# Altium integrated library Transistor.IntLib: 3457 symbols (part 55 of 78)
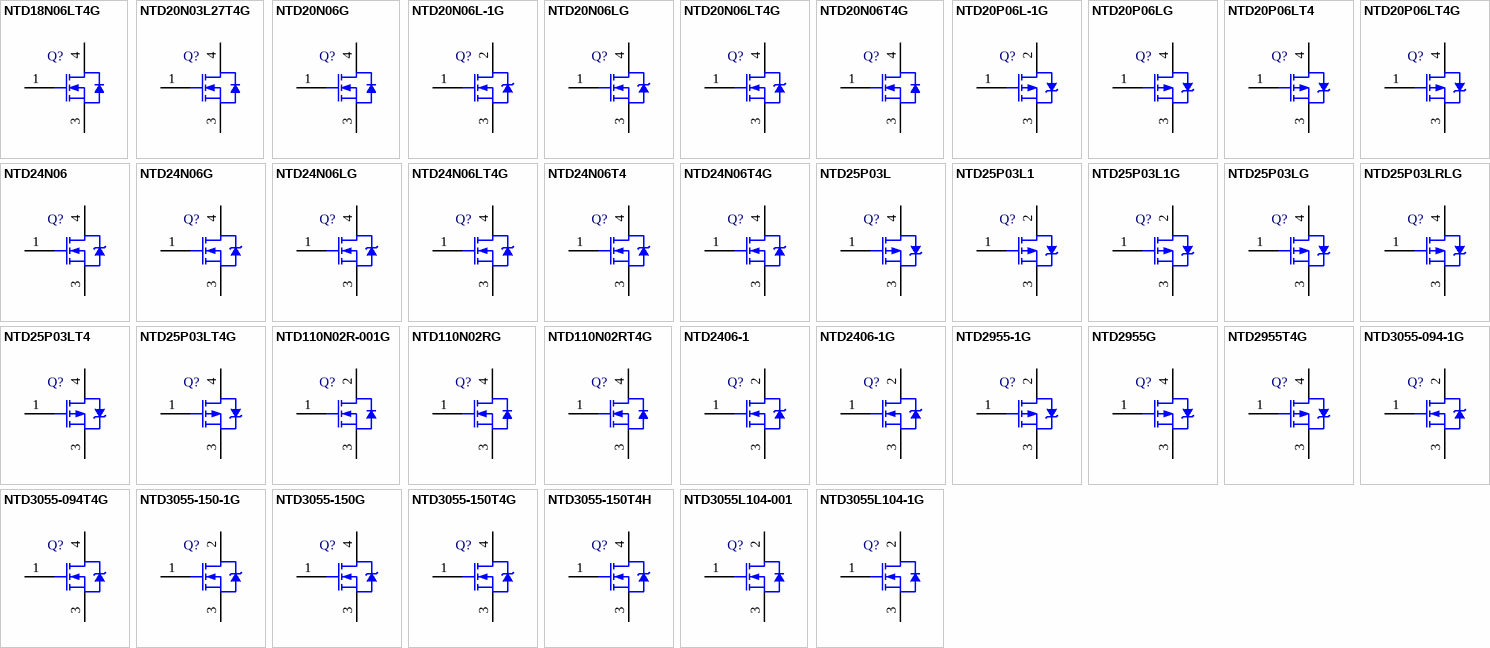
[diagram p148: symbols NTD18N06LT4G to NTD3055L104-1G]

## NTD20N06LT4G
designator Q?
Power MOSFET, 20 A, 60 V, Logic Level, N-Channel, 3-Pin DPAK, Pb-Free, Tape and Reel; Manufacturer: On Semiconductor; PartNumber: NTD20N06LT4G; Channel Polarity: N Channel; Ciss Typ (pF): 707; Configuration: Single; Coss Typ (pF): 224; Crss Typ (pF): 72; ID Max (A): 20; Qrr Typ (nC): 66; V(BR)DSS Min (V): 60; VGS(th) Max (V): 2; DatasheetVersion: Rev. 3; PackageVersion: Rev. E, 02/2014; PackageReference: DPAK-3-369C-01; PackageDescription: 3-Pin Flange Mount, Body 6.54 x 6.095 mm, Pitch 2.29 mm; Package Type: DPAK-3; Packing: Tape and Reel; RoHS: Pb-Free; Mounting Technology: Surface Mount; ComponentLink1Description: Manufacturer URL; ComponentLink1URL: http://www.onsemi.com/; ComponentLink2Description: Datasheet; ComponentLink2URL: http://www.onsemi.cn/pub_link/Collateral/NTD20N06L-D.PDF; ComponentLink3Description: Package Specification; ComponentLink3URL: http://www.onsemi.cn/pub_link/Collateral/369C.PDF
footprint ONSC-DPAK-3-369C-01_V (DPAK, 3-Leads, Body 6.54x6.095mm, Pitch 2.29mm)
pins: 1 G, 3 S, 4 D

## NTD20N06T4G
designator Q?
Power MOSFET, 20 A, 60 V, N-Channel, 3-Pin DPAK, Pb-Free, Tape and Reel; Manufacturer: On Semiconductor; PartNumber: NTD20N06T4G; Channel Polarity: N Channel; Ciss Typ (pF): 725; Configuration: Single; Coss Typ (pF): 213; Crss Typ (pF): 58; ID Max (A): 20; Qrr Typ (nC): 84; V(BR)DSS Min (V): 60; VGS(th) Max (V): 4; DatasheetVersion: Rev. 8; PackageVersion: Rev. E, 02/2014; PackageReference: DPAK-3-369C-01; PackageDescription: 3-Pin Flange Mount, Body 6.54 x 6.095 mm, Pitch 2.29 mm; Package Type: DPAK-3; Packing: Tape and Reel; RoHS: Pb-Free; Mounting Technology: Surface Mount; ComponentLink1Description: Manufacturer URL; ComponentLink1URL: http://www.onsemi.com/; ComponentLink2Description: Datasheet; ComponentLink2URL: http://www.onsemi.cn/pub_link/Collateral/NTD20N06-D.PDF; ComponentLink3Description: Package Specification; ComponentLink3URL: http://www.onsemi.cn/pub_link/Collateral/369C.PDF
footprint ONSC-DPAK-3-369C-01_V (DPAK, 3-Leads, Body 6.54x6.095mm, Pitch 2.29mm)
pins: 1 G, 3 S, 4 D

## NTD20P06L-1G
designator Q?
Power MOSFET -60 V, -15.5 A, Single P-Channel, 3-Pin IPAK, Pb-Free, Tube; Manufacturer: On Semiconductor; PartNumber: NTD20P06L-1G; Channel Polarity: P Channel; Ciss Typ (pF): 740; Coss Typ (pF): 207; Crss Typ (pF): 66; ID Max (A): 15.5; PD Max (W): 65; Qrr Typ (nC): 0.13; V(BR)DSS Min (V): 60; VGS Max (V): 20; VGS(th) Max (V): 2; DatasheetVersion: Rev. 6; PackageVersion: Rev. C, 12/2010; PackageReference: IPAK-3-369D-01; PackageDescription: 3-Pin Flange Mount, Vertical Straight Lead, Body 6.54 x 2.285 mm, Pitch 2.29 mm; Configuration: Single; Package Type: DPAK-3; Packing: Tube; RoHS: Pb-Free; Mounting Technology: Through Hole; Code_JEDEC: TO-251; ComponentLink1Description: Manufacturer URL; ComponentLink1URL: http://www.onsemi.com/; ComponentLink2Description: Datasheet; ComponentLink2URL: http://www.onsemi.cn/pub_link/Collateral/NTD20P06L-D.PDF; ComponentLink3Description: Package Specification; ComponentLink3URL: http://www.onsemi.cn/pub_link/Collateral/369D.PDF
footprint ONSC-IPAK-3-369D-01 (FM, 3-Leads, Body 6.75x2.4mm, Pitch 2.29mm)
pins: 1 G, 2 D, 3 S

## NTD20P06LG
designator Q?
Power MOSFET -60 V, -15.5 A, Single P-Channel, 3-Pin DPAK, Pb-Free, Tube; Manufacturer: On Semiconductor; PartNumber: NTD20P06LG; Channel Polarity: P Channel; Ciss Typ (pF): 740; Coss Typ (pF): 207; Crss Typ (pF): 66; ID Max (A): 15.5; PD Max (W): 65; Qrr Typ (nC): 0.13; V(BR)DSS Min (V): 60; VGS Max (V): 20; VGS(th) Max (V): 2; DatasheetVersion: Rev. 6; PackageVersion: Rev. E, 02/2014; PackageReference: DPAK-3-369C-01; PackageDescription: 3-Pin Flange Mount, Body 6.54 x 6.095 mm, Pitch 2.29 mm; Configuration: Single; Package Type: DPAK-3; Packing: Tube; RoHS: Pb-Free; Mounting Technology: Surface Mount; ComponentLink1Description: Manufacturer URL; ComponentLink1URL: http://www.onsemi.com/; ComponentLink2Description: Datasheet; ComponentLink2URL: http://www.onsemi.cn/pub_link/Collateral/NTD20P06L-D.PDF; ComponentLink3Description: Package Specification; ComponentLink3URL: http://www.onsemi.cn/pub_link/Collateral/369C.PDF
footprint ONSC-DPAK-3-369C-01_V (DPAK, 3-Leads, Body 6.54x6.095mm, Pitch 2.29mm)
pins: 1 G, 3 S, 4 D

## NTD20P06LT4
designator Q?
Power MOSFET -60 V, -15.5 A, Single P-Channel, 3-Pin DPAK, Tape and Reel; Manufacturer: On Semiconductor; PartNumber: NTD20P06LT4; Channel Polarity: P Channel; Ciss Typ (pF): 740; Coss Typ (pF): 207; Crss Typ (pF): 66; ID Max (A): 15.5; PD Max (W): 65; Qrr Typ (nC): 0.13; V(BR)DSS Min (V): 60; VGS Max (V): 20; VGS(th) Max (V): 2; DatasheetVersion: Rev. 6; PackageVersion: Rev. E, 02/2014; PackageReference: DPAK-3-369C-01; PackageDescription: 3-Pin Flange Mount, Body 6.54 x 6.095 mm, Pitch 2.29 mm; Configuration: Single; Package Type: DPAK-3; Packing: Tape and Reel; Mounting Technology: Surface Mount; ComponentLink1Description: Manufacturer URL; ComponentLink1URL: http://www.onsemi.com/; ComponentLink2Description: Datasheet; ComponentLink2URL: http://www.onsemi.cn/pub_link/Collateral/NTD20P06L-D.PDF; ComponentLink3Description: Package Specification; ComponentLink3URL: http://www.onsemi.cn/pub_link/Collateral/369C.PDF
footprint ONSC-DPAK-3-369C-01_V (DPAK, 3-Leads, Body 6.54x6.095mm, Pitch 2.29mm)
pins: 1 G, 3 S, 4 D

## NTD20P06LT4G
designator Q?
Power MOSFET -60 V, -15.5 A, Single P-Channel, 3-Pin DPAK, Pb-Free, Tape and Reel; Manufacturer: On Semiconductor; PartNumber: NTD20P06LT4G; Channel Polarity: P Channel; Ciss Typ (pF): 740; Coss Typ (pF): 207; Crss Typ (pF): 66; ID Max (A): 15.5; PD Max (W): 65; Qrr Typ (nC): 0.13; V(BR)DSS Min (V): 60; VGS Max (V): 20; VGS(th) Max (V): 2; DatasheetVersion: Rev. 6; PackageVersion: Rev. E, 02/2014; PackageReference: DPAK-3-369C-01; PackageDescription: 3-Pin Flange Mount, Body 6.54 x 6.095 mm, Pitch 2.29 mm; Configuration: Single; Package Type: DPAK-3; Packing: Tape and Reel; RoHS: Pb-Free; Mounting Technology: Surface Mount; ComponentLink1Description: Manufacturer URL; ComponentLink1URL: http://www.onsemi.com/; ComponentLink2Description: Datasheet; ComponentLink2URL: http://www.onsemi.cn/pub_link/Collateral/NTD20P06L-D.PDF; ComponentLink3Description: Package Specification; ComponentLink3URL: http://www.onsemi.cn/pub_link/Collateral/369C.PDF
footprint ONSC-DPAK-3-369C-01_V (DPAK, 3-Leads, Body 6.54x6.095mm, Pitch 2.29mm)
pins: 1 G, 3 S, 4 D

## NTD24N06
designator Q?
Power MOSFET, 60 V, 24 A, N-Channel, 3-Pin DPAK, Tube; Manufacturer: On Semiconductor; PartNumber: NTD24N06; Channel Polarity: N Channel; Ciss Typ (pF): 846; Configuration: Single; Coss Typ (pF): 252; Crss Typ (pF): 68; ID Max (A): 24; Qrr Typ (nC): 96; V(BR)DSS Min (V): 60; VGS(th) Max (V): 4; DatasheetVersion: Rev. 4; PackageVersion: Rev. E, 02/2014; PackageReference: DPAK-3-369C-01; PackageDescription: 3-Pin Flange Mount, Body 6.54 x 6.095 mm, Pitch 2.29 mm; Package Type: DPAK-3; Packing: Tube; Mounting Technology: Surface Mount; ComponentLink1Description: Manufacturer URL; ComponentLink1URL: http://www.onsemi.com/; ComponentLink2Description: Datasheet; ComponentLink2URL: http://www.onsemi.cn/pub_link/Collateral/NTD24N06-D.PDF; ComponentLink3Description: Package Specification; ComponentLink3URL: http://www.onsemi.cn/pub_link/Collateral/369C.PDF
footprint ONSC-DPAK-3-369C-01_V (DPAK, 3-Leads, Body 6.54x6.095mm, Pitch 2.29mm)
pins: 1 G, 3 S, 4 D

## NTD24N06G
designator Q?
Power MOSFET, 60 V, 24 A, N-Channel, 3-Pin DPAK, Pb-Free, Tube; Manufacturer: On Semiconductor; PartNumber: NTD24N06G; Channel Polarity: N Channel; Ciss Typ (pF): 846; Configuration: Single; Coss Typ (pF): 252; Crss Typ (pF): 68; ID Max (A): 24; Qrr Typ (nC): 96; V(BR)DSS Min (V): 60; VGS(th) Max (V): 4; DatasheetVersion: Rev. 4; PackageVersion: Rev. E, 02/2014; PackageReference: DPAK-3-369C-01; PackageDescription: 3-Pin Flange Mount, Body 6.54 x 6.095 mm, Pitch 2.29 mm; Package Type: DPAK-3; Packing: Tube; RoHS: Pb-Free; Mounting Technology: Surface Mount; ComponentLink1Description: Manufacturer URL; ComponentLink1URL: http://www.onsemi.com/; ComponentLink2Description: Datasheet; ComponentLink2URL: http://www.onsemi.cn/pub_link/Collateral/NTD24N06-D.PDF; ComponentLink3Description: Package Specification; ComponentLink3URL: http://www.onsemi.cn/pub_link/Collateral/369C.PDF
footprint ONSC-DPAK-3-369C-01_V (DPAK, 3-Leads, Body 6.54x6.095mm, Pitch 2.29mm)
pins: 1 G, 3 S, 4 D

## NTD24N06LG
designator Q?
Power MOSFET, 24 A, 60 V, Logic Level, N-Channel, 3-Pin DPAK, Pb-Free, Tube; Manufacturer: On Semiconductor; PartNumber: NTD24N06LG; Channel Polarity: N Channel; Ciss Typ (pF): 814; Configuration: Single; Coss Typ (pF): 258; Crss Typ (pF): 80; Qrr Typ (nC): 84; V(BR)DSS Min (V): 60; VGS(th) Max (V): 2; DatasheetVersion: Rev. 3; PackageVersion: Rev. E, 02/2014; PackageReference: DPAK-3-369C-01; PackageDescription: 3-Pin Flange Mount, Body 6.54 x 6.095 mm, Pitch 2.29 mm; Package Type: DPAK-3; Packing: Tube; RoHS: Pb-Free; Mounting Technology: Surface Mount; ComponentLink1Description: Manufacturer URL; ComponentLink1URL: http://www.onsemi.com/; ComponentLink2Description: Datasheet; ComponentLink2URL: http://www.onsemi.cn/pub_link/Collateral/NTD24N06L-D.PDF; ComponentLink3Description: Package Specification; ComponentLink3URL: http://www.onsemi.cn/pub_link/Collateral/369C.PDF
footprint ONSC-DPAK-3-369C-01_V (DPAK, 3-Leads, Body 6.54x6.095mm, Pitch 2.29mm)
pins: 1 G, 3 S, 4 D

## NTD24N06LT4G
designator Q?
Power MOSFET, 24 A, 60 V, Logic Level, N-Channel, 3-Pin DPAK, Pb-Free, Tape and Reel; Manufacturer: On Semiconductor; PartNumber: NTD24N06LT4G; Channel Polarity: N Channel; Ciss Typ (pF): 814; Configuration: Single; Coss Typ (pF): 258; Crss Typ (pF): 80; Qrr Typ (nC): 84; V(BR)DSS Min (V): 60; VGS(th) Max (V): 2; DatasheetVersion: Rev. 3; PackageVersion: Rev. E, 02/2014; PackageReference: DPAK-3-369C-01; PackageDescription: 3-Pin Flange Mount, Body 6.54 x 6.095 mm, Pitch 2.29 mm; Package Type: DPAK-3; Packing: Tape and Reel; RoHS: Pb-Free; Mounting Technology: Surface Mount; ComponentLink1Description: Manufacturer URL; ComponentLink1URL: http://www.onsemi.com/; ComponentLink2Description: Datasheet; ComponentLink2URL: http://www.onsemi.cn/pub_link/Collateral/NTD24N06L-D.PDF; ComponentLink3Description: Package Specification; ComponentLink3URL: http://www.onsemi.cn/pub_link/Collateral/369C.PDF
footprint ONSC-DPAK-3-369C-01_V (DPAK, 3-Leads, Body 6.54x6.095mm, Pitch 2.29mm)
pins: 1 G, 3 S, 4 D

## NTD24N06T4
designator Q?
Power MOSFET, 60 V, 24 A, N-Channel, 3-Pin DPAK, Tape and Reel; Manufacturer: On Semiconductor; PartNumber: NTD24N06T4; Channel Polarity: N Channel; Ciss Typ (pF): 846; Configuration: Single; Coss Typ (pF): 252; Crss Typ (pF): 68; ID Max (A): 24; Qrr Typ (nC): 96; V(BR)DSS Min (V): 60; VGS(th) Max (V): 4; DatasheetVersion: Rev. 4; PackageVersion: Rev. E, 02/2014; PackageReference: DPAK-3-369C-01; PackageDescription: 3-Pin Flange Mount, Body 6.54 x 6.095 mm, Pitch 2.29 mm; Package Type: DPAK-3; Packing: Tape and Reel; Mounting Technology: Surface Mount; ComponentLink1Description: Manufacturer URL; ComponentLink1URL: http://www.onsemi.com/; ComponentLink2Description: Datasheet; ComponentLink2URL: http://www.onsemi.cn/pub_link/Collateral/NTD24N06-D.PDF; ComponentLink3Description: Package Specification; ComponentLink3URL: http://www.onsemi.cn/pub_link/Collateral/369C.PDF
footprint ONSC-DPAK-3-369C-01_V (DPAK, 3-Leads, Body 6.54x6.095mm, Pitch 2.29mm)
pins: 1 G, 3 S, 4 D

## NTD24N06T4G
designator Q?
Power MOSFET, 60 V, 24 A, N-Channel, 3-Pin DPAK, Pb-Free, Tape and Reel; Manufacturer: On Semiconductor; PartNumber: NTD24N06T4G; Channel Polarity: N Channel; Ciss Typ (pF): 846; Configuration: Single; Coss Typ (pF): 252; Crss Typ (pF): 68; ID Max (A): 24; Qrr Typ (nC): 96; V(BR)DSS Min (V): 60; VGS(th) Max (V): 4; DatasheetVersion: Rev. 4; PackageVersion: Rev. E, 02/2014; PackageReference: DPAK-3-369C-01; PackageDescription: 3-Pin Flange Mount, Body 6.54 x 6.095 mm, Pitch 2.29 mm; Package Type: DPAK-3; Packing: Tape and Reel; RoHS: Pb-Free; Mounting Technology: Surface Mount; ComponentLink1Description: Manufacturer URL; ComponentLink1URL: http://www.onsemi.com/; ComponentLink2Description: Datasheet; ComponentLink2URL: http://www.onsemi.cn/pub_link/Collateral/NTD24N06-D.PDF; ComponentLink3Description: Package Specification; ComponentLink3URL: http://www.onsemi.cn/pub_link/Collateral/369C.PDF
footprint ONSC-DPAK-3-369C-01_V (DPAK, 3-Leads, Body 6.54x6.095mm, Pitch 2.29mm)
pins: 1 G, 3 S, 4 D

## NTD25P03L
designator Q?
Power MOSFET, -25 A, -30 V, Logic Level P-Channel, 3-Pin DPAK, Tube; Manufacturer: On Semiconductor; PartNumber: NTD25P03L; Channel Polarity: P Channel; Ciss Typ (pF): 900; Configuration: Single; Coss Typ (pF): 290; Crss Typ (pF): 105; ID Max (A): 25; PD Max (W): 75; Qrr Typ (nC): 35; V(BR)DSS Min (V): 30; VGS Max (V): 15; VGS(th) Max (V): 2; DatasheetVersion: Rev. 4; PackageVersion: Rev. E, 02/2014; PackageReference: DPAK-3-369C-01; PackageDescription: 3-Pin Flange Mount, Body 6.54 x 6.095 mm, Pitch 2.29 mm; Package Type: DPAK-3; Packing: Tube; Mounting Technology: Surface Mount; ComponentLink1Description: Manufacturer URL; ComponentLink1URL: http://www.onsemi.com/; ComponentLink2Description: Datasheet; ComponentLink2URL: http://www.onsemi.cn/pub_link/Collateral/NTD25P03L-D.PDF; ComponentLink3Description: Package Specification; ComponentLink3URL: http://www.onsemi.cn/pub_link/Collateral/369C.PDF
footprint ONSC-DPAK-3-369C-01_V (DPAK, 3-Leads, Body 6.54x6.095mm, Pitch 2.29mm)
pins: 1 G, 3 S, 4 D

## NTD25P03L1
designator Q?
Power MOSFET, -25 A, -30 V, Logic Level P-Channel, 3-Pin IPAK, Tube; Manufacturer: On Semiconductor; PartNumber: NTD25P03L1; Channel Polarity: P Channel; Ciss Typ (pF): 900; Configuration: Single; Coss Typ (pF): 290; Crss Typ (pF): 105; ID Max (A): 25; PD Max (W): 75; Qrr Typ (nC): 35; V(BR)DSS Min (V): 30; VGS Max (V): 15; VGS(th) Max (V): 2; DatasheetVersion: Rev. 4; PackageVersion: Rev. C, 12/2010; PackageReference: IPAK-3-369D-01; PackageDescription: 3-Pin Flange Mount, Vertical Straight Lead, Body 6.54 x 2.285 mm, Pitch 2.29 mm; Package Type: DPAK-3; Packing: Tube; Mounting Technology: Through Hole; Code_JEDEC: TO-251; ComponentLink1Description: Manufacturer URL; ComponentLink1URL: http://www.onsemi.com/; ComponentLink2Description: Datasheet; ComponentLink2URL: http://www.onsemi.cn/pub_link/Collateral/NTD25P03L-D.PDF; ComponentLink3Description: Package Specification; ComponentLink3URL: http://www.onsemi.cn/pub_link/Collateral/369D.PDF
footprint ONSC-IPAK-3-369D-01 (FM, 3-Leads, Body 6.75x2.4mm, Pitch 2.29mm)
pins: 1 G, 2 D, 3 S

## NTD25P03L1G
designator Q?
Power MOSFET, -25 A, -30 V, Logic Level P-Channel, 3-Pin IPAK, Pb-Free, Tube; Manufacturer: On Semiconductor; PartNumber: NTD25P03L1G; Channel Polarity: P Channel; Ciss Typ (pF): 900; Configuration: Single; Coss Typ (pF): 290; Crss Typ (pF): 105; ID Max (A): 25; PD Max (W): 75; Qrr Typ (nC): 35; V(BR)DSS Min (V): 30; VGS Max (V): 15; VGS(th) Max (V): 2; DatasheetVersion: Rev. 4; PackageVersion: Rev. C, 12/2010; PackageReference: IPAK-3-369D-01; PackageDescription: 3-Pin Flange Mount, Vertical Straight Lead, Body 6.54 x 2.285 mm, Pitch 2.29 mm; Package Type: DPAK-3; Packing: Tube; RoHS: Pb-Free; Mounting Technology: Through Hole; Code_JEDEC: TO-251; ComponentLink1Description: Manufacturer URL; ComponentLink1URL: http://www.onsemi.com/; ComponentLink2Description: Datasheet; ComponentLink2URL: http://www.onsemi.cn/pub_link/Collateral/NTD25P03L-D.PDF; ComponentLink3Description: Package Specification; ComponentLink3URL: http://www.onsemi.cn/pub_link/Collateral/369D.PDF
footprint ONSC-IPAK-3-369D-01 (FM, 3-Leads, Body 6.75x2.4mm, Pitch 2.29mm)
pins: 1 G, 2 D, 3 S

## NTD25P03LG
designator Q?
Power MOSFET, -25 A, -30 V, Logic Level P-Channel, 3-Pin DPAK, Pb-Free, Tube; Manufacturer: On Semiconductor; PartNumber: NTD25P03LG; Channel Polarity: P Channel; Ciss Typ (pF): 900; Configuration: Single; Coss Typ (pF): 290; Crss Typ (pF): 105; ID Max (A): 25; PD Max (W): 75; Qrr Typ (nC): 35; V(BR)DSS Min (V): 30; VGS Max (V): 15; VGS(th) Max (V): 2; DatasheetVersion: Rev. 4; PackageVersion: Rev. E, 02/2014; PackageReference: DPAK-3-369C-01; PackageDescription: 3-Pin Flange Mount, Body 6.54 x 6.095 mm, Pitch 2.29 mm; Package Type: DPAK-3; Packing: Tube; RoHS: Pb-Free; Mounting Technology: Surface Mount; ComponentLink1Description: Manufacturer URL; ComponentLink1URL: http://www.onsemi.com/; ComponentLink2Description: Datasheet; ComponentLink2URL: http://www.onsemi.cn/pub_link/Collateral/NTD25P03L-D.PDF; ComponentLink3Description: Package Specification; ComponentLink3URL: http://www.onsemi.cn/pub_link/Collateral/369C.PDF
footprint ONSC-DPAK-3-369C-01_V (DPAK, 3-Leads, Body 6.54x6.095mm, Pitch 2.29mm)
pins: 1 G, 3 S, 4 D

## NTD25P03LRLG
designator Q?
Power MOSFET, -25 A, -30 V, Logic Level P-Channel, 3-Pin DPAK, Pb-Free, Tape and Reel; Manufacturer: On Semiconductor; PartNumber: NTD25P03LRLG; Channel Polarity: P Channel; Ciss Typ (pF): 900; Configuration: Single; Coss Typ (pF): 290; Crss Typ (pF): 105; ID Max (A): 25; PD Max (W): 75; Qrr Typ (nC): 35; V(BR)DSS Min (V): 30; VGS Max (V): 15; VGS(th) Max (V): 2; DatasheetVersion: Rev. 4; PackageVersion: Rev. E, 02/2014; PackageReference: DPAK-3-369C-01; PackageDescription: 3-Pin Flange Mount, Body 6.54 x 6.095 mm, Pitch 2.29 mm; Package Type: DPAK-3; Packing: Tape and Reel; RoHS: Pb-Free; Mounting Technology: Surface Mount; ComponentLink1Description: Manufacturer URL; ComponentLink1URL: http://www.onsemi.com/; ComponentLink2Description: Datasheet; ComponentLink2URL: http://www.onsemi.cn/pub_link/Collateral/NTD25P03L-D.PDF; ComponentLink3Description: Package Specification; ComponentLink3URL: http://www.onsemi.cn/pub_link/Collateral/369C.PDF
footprint ONSC-DPAK-3-369C-01_V (DPAK, 3-Leads, Body 6.54x6.095mm, Pitch 2.29mm)
pins: 1 G, 3 S, 4 D

## NTD25P03LT4
designator Q?
Power MOSFET, -25 A, -30 V, Logic Level P-Channel, 3-Pin DPAK, Tape and Reel; Manufacturer: On Semiconductor; PartNumber: NTD25P03LT4; Channel Polarity: P Channel; Ciss Typ (pF): 900; Configuration: Single; Coss Typ (pF): 290; Crss Typ (pF): 105; ID Max (A): 25; PD Max (W): 75; Qrr Typ (nC): 35; V(BR)DSS Min (V): 30; VGS Max (V): 15; VGS(th) Max (V): 2; DatasheetVersion: Rev. 4; PackageVersion: Rev. E, 02/2014; PackageReference: DPAK-3-369C-01; PackageDescription: 3-Pin Flange Mount, Body 6.54 x 6.095 mm, Pitch 2.29 mm; Package Type: DPAK-3; Packing: Tape and Reel; Mounting Technology: Surface Mount; ComponentLink1Description: Manufacturer URL; ComponentLink1URL: http://www.onsemi.com/; ComponentLink2Description: Datasheet; ComponentLink2URL: http://www.onsemi.cn/pub_link/Collateral/NTD25P03L-D.PDF; ComponentLink3Description: Package Specification; ComponentLink3URL: http://www.onsemi.cn/pub_link/Collateral/369C.PDF
footprint ONSC-DPAK-3-369C-01_V (DPAK, 3-Leads, Body 6.54x6.095mm, Pitch 2.29mm)
pins: 1 G, 3 S, 4 D

## NTD25P03LT4G
designator Q?
Power MOSFET, -25 A, -30 V, Logic Level P-Channel, 3-Pin DPAK, Pb-Free, Tape and Reel; Manufacturer: On Semiconductor; PartNumber: NTD25P03LT4G; Channel Polarity: P Channel; Ciss Typ (pF): 900; Configuration: Single; Coss Typ (pF): 290; Crss Typ (pF): 105; ID Max (A): 25; PD Max (W): 75; Qrr Typ (nC): 35; V(BR)DSS Min (V): 30; VGS Max (V): 15; VGS(th) Max (V): 2; DatasheetVersion: Rev. 4; PackageVersion: Rev. E, 02/2014; PackageReference: DPAK-3-369C-01; PackageDescription: 3-Pin Flange Mount, Body 6.54 x 6.095 mm, Pitch 2.29 mm; Package Type: DPAK-3; Packing: Tape and Reel; RoHS: Pb-Free; Mounting Technology: Surface Mount; ComponentLink1Description: Manufacturer URL; ComponentLink1URL: http://www.onsemi.com/; ComponentLink2Description: Datasheet; ComponentLink2URL: http://www.onsemi.cn/pub_link/Collateral/NTD25P03L-D.PDF; ComponentLink3Description: Package Specification; ComponentLink3URL: http://www.onsemi.cn/pub_link/Collateral/369C.PDF
footprint ONSC-DPAK-3-369C-01_V (DPAK, 3-Leads, Body 6.54x6.095mm, Pitch 2.29mm)
pins: 1 G, 3 S, 4 D

## NTD110N02R-001G
designator Q?
Power MOSFET, 24 V, 110 A, N-Channel, 3-Pin IPAK, Pb-Free, Tube; Manufacturer: On Semiconductor; PartNumber: NTD110N02R-001G; Channel Polarity: N Channel; Ciss Typ (pF): 2710; Configuration: Single; Coss Typ (pF): 1105; Crss Typ (pF): 450; ID Max (A): 110; Qrr Typ (nC): 48; V(BR)DSS Min (V): 24; VGS Max (V): 20; VGS(th) Max (V): 2; DatasheetVersion: Rev. 10; PackageVersion: Rev. C, 12/2010; PackageReference: IPAK-3-369D-01; PackageDescription: 3-Pin Flange Mount, Vertical Straight Lead, Body 6.54 x 2.285 mm, Pitch 2.29 mm; Package Type: DPAK-3; Packing: Tube; RoHS: Pb-Free; Mounting Technology: Through Hole; Code_JEDEC: TO-251; ComponentLink1Description: Manufacturer URL; ComponentLink1URL: http://www.onsemi.com/; ComponentLink2Description: Datasheet; ComponentLink2URL: http://www.onsemi.cn/pub_link/Collateral/NTD110N02R-D.PDF; ComponentLink3Description: Package Specification; ComponentLink3URL: http://www.onsemi.cn/pub_link/Collateral/369D.PDF
footprint ONSC-IPAK-3-369D-01 (FM, 3-Leads, Body 6.75x2.4mm, Pitch 2.29mm)
pins: 1 G, 2 D, 3 S

## NTD110N02RG
designator Q?
Power MOSFET, 24 V, 110 A, N-Channel, 3-Pin DPAK, Pb-Free, Tube; Manufacturer: On Semiconductor; PartNumber: NTD110N02RG; Channel Polarity: N Channel; Ciss Typ (pF): 2710; Configuration: Single; Coss Typ (pF): 1105; Crss Typ (pF): 450; ID Max (A): 110; Qrr Typ (nC): 48; V(BR)DSS Min (V): 24; VGS Max (V): 20; VGS(th) Max (V): 2; DatasheetVersion: Rev. 10; PackageVersion: Rev. B, 06/2010; PackageReference: DPAK-3-369AA-01; PackageDescription: 3-Pin Flange Mount, Body 6.54 x 6.095 mm, Pitch 2.29 mm; Package Type: DPAK-3; Packing: Tube; RoHS: Pb-Free; Mounting Technology: Surface Mount; ComponentLink1Description: Manufacturer URL; ComponentLink1URL: http://www.onsemi.com/; ComponentLink2Description: Datasheet; ComponentLink2URL: http://www.onsemi.cn/pub_link/Collateral/NTD110N02R-D.PDF; ComponentLink3Description: Package Specification; ComponentLink3URL: http://www.onsemi.cn/pub_link/Collateral/369AA.PDF
footprint ONSC-DPAK-3-369AA-01_V (DPAK, 3-Leads, Body 6.54x6.095mm, Pitch 2.29mm)
pins: 1 G, 3 S, 4 D

## NTD110N02RT4G
designator Q?
Power MOSFET, 24 V, 110 A, N-Channel, 3-Pin DPAK, Pb-Free, Tape and Reel; Manufacturer: On Semiconductor; PartNumber: NTD110N02RT4G; Channel Polarity: N Channel; Ciss Typ (pF): 2710; Configuration: Single; Coss Typ (pF): 1105; Crss Typ (pF): 450; ID Max (A): 110; Qrr Typ (nC): 48; V(BR)DSS Min (V): 24; VGS Max (V): 20; VGS(th) Max (V): 2; DatasheetVersion: Rev. 10; PackageVersion: Rev. B, 06/2010; PackageReference: DPAK-3-369AA-01; PackageDescription: 3-Pin Flange Mount, Body 6.54 x 6.095 mm, Pitch 2.29 mm; Package Type: DPAK-3; Packing: Tape and Reel; RoHS: Pb-Free; Mounting Technology: Surface Mount; ComponentLink1Description: Manufacturer URL; ComponentLink1URL: http://www.onsemi.com/; ComponentLink2Description: Datasheet; ComponentLink2URL: http://www.onsemi.cn/pub_link/Collateral/NTD110N02R-D.PDF; ComponentLink3Description: Package Specification; ComponentLink3URL: http://www.onsemi.cn/pub_link/Collateral/369AA.PDF
footprint ONSC-DPAK-3-369AA-01_V (DPAK, 3-Leads, Body 6.54x6.095mm, Pitch 2.29mm)
pins: 1 G, 3 S, 4 D

## NTD2406-1
designator Q?
Power MOSFET, 60 V, 24 A, N-Channel, 3-Pin IPAK, Tube; Manufacturer: On Semiconductor; PartNumber: NTD2406-1; Channel Polarity: N Channel; Ciss Typ (pF): 846; Configuration: Single; Coss Typ (pF): 252; Crss Typ (pF): 68; ID Max (A): 24; Qrr Typ (nC): 96; V(BR)DSS Min (V): 60; VGS(th) Max (V): 4; DatasheetVersion: Rev. 4; PackageVersion: Rev. C, 12/2010; PackageReference: IPAK-3-369D-01; PackageDescription: 3-Pin Flange Mount, Vertical Straight Lead, Body 6.54 x 2.285 mm, Pitch 2.29 mm; Package Type: DPAK-3; Packing: Tube; Mounting Technology: Through Hole; Code_JEDEC: TO-251; ComponentLink1Description: Manufacturer URL; ComponentLink1URL: http://www.onsemi.com/; ComponentLink2Description: Datasheet; ComponentLink2URL: http://www.onsemi.cn/pub_link/Collateral/NTD24N06-D.PDF; ComponentLink3Description: Package Specification; ComponentLink3URL: http://www.onsemi.cn/pub_link/Collateral/369D.PDF
footprint ONSC-IPAK-3-369D-01 (FM, 3-Leads, Body 6.75x2.4mm, Pitch 2.29mm)
pins: 1 G, 2 D, 3 S

## NTD2406-1G
designator Q?
Power MOSFET, 60 V, 24 A, N-Channel, 3-Pin IPAK, Pb-Free, Tube; Manufacturer: On Semiconductor; PartNumber: NTD2406-1G; Channel Polarity: N Channel; Ciss Typ (pF): 846; Configuration: Single; Coss Typ (pF): 252; Crss Typ (pF): 68; ID Max (A): 24; Qrr Typ (nC): 96; V(BR)DSS Min (V): 60; VGS(th) Max (V): 4; DatasheetVersion: Rev. 4; PackageVersion: Rev. C, 12/2010; PackageReference: IPAK-3-369D-01; PackageDescription: 3-Pin Flange Mount, Vertical Straight Lead, Body 6.54 x 2.285 mm, Pitch 2.29 mm; Package Type: DPAK-3; Packing: Tube; RoHS: Pb-Free; Mounting Technology: Through Hole; Code_JEDEC: TO-251; ComponentLink1Description: Manufacturer URL; ComponentLink1URL: http://www.onsemi.com/; ComponentLink2Description: Datasheet; ComponentLink2URL: http://www.onsemi.cn/pub_link/Collateral/NTD24N06-D.PDF; ComponentLink3Description: Package Specification; ComponentLink3URL: http://www.onsemi.cn/pub_link/Collateral/369D.PDF
footprint ONSC-IPAK-3-369D-01 (FM, 3-Leads, Body 6.75x2.4mm, Pitch 2.29mm)
pins: 1 G, 2 D, 3 S

## NTD2955-1G
designator Q?
Power MOSFET, -60 V, -12 A, P-Channel, 3-Pin IPAK, Pb-Free, Tube; Manufacturer: On Semiconductor; PartNumber: NTD2955-1G; Channel Polarity: P Channel; Ciss Typ (pF): 500; Configuration: Single; Coss Typ (pF): 150; Crss Typ (pF): 50; ID Max (A): 12; PD Max (W): 55; Qrr Typ (nC): 100; V(BR)DSS Min (V): 60; VGS Max (V): 20; VGS(th) Max (V): 4; DatasheetVersion: Rev. 13; PackageVersion: Rev. C, 12/2010; PackageReference: IPAK-3-369D-01; PackageDescription: 3-Pin Flange Mount, Vertical Straight Lead, Body 6.54 x 2.285 mm, Pitch 2.29 mm; Package Type: DPAK-3, IPAK-4; Packing: Tube; RoHS: Pb-Free; Mounting Technology: Through Hole; Code_JEDEC: TO-251; ComponentLink1Description: Manufacturer URL; ComponentLink1URL: http://www.onsemi.com/; ComponentLink2Description: Datasheet; ComponentLink2URL: http://www.onsemi.cn/pub_link/Collateral/NTD2955-D.PDF; ComponentLink3Description: Package Specification; ComponentLink3URL: http://www.onsemi.cn/pub_link/Collateral/369D.PDF
footprint ONSC-IPAK-3-369D-01 (FM, 3-Leads, Body 6.75x2.4mm, Pitch 2.29mm)
pins: 1 G, 2 D, 3 S

## NTD2955G
designator Q?
Power MOSFET, -60 V, -12 A, P-Channel, 3-Pin DPAK, Pb-Free, Tape and Reel; Manufacturer: On Semiconductor; PartNumber: NTD2955G; Channel Polarity: P Channel; Ciss Typ (pF): 500; Configuration: Single; Coss Typ (pF): 150; Crss Typ (pF): 50; ID Max (A): 12; PD Max (W): 55; Qrr Typ (nC): 100; V(BR)DSS Min (V): 60; VGS Max (V): 20; VGS(th) Max (V): 4; DatasheetVersion: Rev. 13; PackageVersion: Rev. E, 02/2014; PackageReference: DPAK-3-369C-01; PackageDescription: 3-Pin Flange Mount, Body 6.54 x 6.095 mm, Pitch 2.29 mm; Package Type: DPAK-3, IPAK-4; Packing: Tape and Reel; RoHS: Pb-Free; Mounting Technology: Surface Mount; ComponentLink1Description: Manufacturer URL; ComponentLink1URL: http://www.onsemi.com/; ComponentLink2Description: Datasheet; ComponentLink2URL: http://www.onsemi.cn/pub_link/Collateral/NTD2955-D.PDF; ComponentLink3Description: Package Specification; ComponentLink3URL: http://www.onsemi.cn/pub_link/Collateral/369C.PDF
footprint ONSC-DPAK-3-369C-01_V (DPAK, 3-Leads, Body 6.54x6.095mm, Pitch 2.29mm)
pins: 1 G, 3 S, 4 D

## NTD2955T4G
designator Q?
Power MOSFET, -60 V, -12 A, P-Channel, 3-Pin DPAK, Pb-Free, Tape and Reel; Manufacturer: On Semiconductor; PartNumber: NTD2955T4G; Channel Polarity: P Channel; Ciss Typ (pF): 500; Configuration: Single; Coss Typ (pF): 150; Crss Typ (pF): 50; ID Max (A): 12; PD Max (W): 55; Qrr Typ (nC): 100; V(BR)DSS Min (V): 60; VGS Max (V): 20; VGS(th) Max (V): 4; DatasheetVersion: Rev. 13; PackageVersion: Rev. E, 02/2014; PackageReference: DPAK-3-369C-01; PackageDescription: 3-Pin Flange Mount, Body 6.54 x 6.095 mm, Pitch 2.29 mm; Package Type: DPAK-3, IPAK-4; Packing: Tape and Reel; RoHS: Pb-Free; Mounting Technology: Surface Mount; ComponentLink1Description: Manufacturer URL; ComponentLink1URL: http://www.onsemi.com/; ComponentLink2Description: Datasheet; ComponentLink2URL: http://www.onsemi.cn/pub_link/Collateral/NTD2955-D.PDF; ComponentLink3Description: Package Specification; ComponentLink3URL: http://www.onsemi.cn/pub_link/Collateral/369C.PDF
footprint ONSC-DPAK-3-369C-01_V (DPAK, 3-Leads, Body 6.54x6.095mm, Pitch 2.29mm)
pins: 1 G, 3 S, 4 D

## NTD3055-094-1G
designator Q?
Power MOSFET, 12 A, 60 V, N-Channel, 3-Pin IPAK, Pb-Free, Tube; Manufacturer: On Semiconductor; PartNumber: NTD3055-094-1G; Channel Polarity: N Channel; Ciss Typ (pF): 323; Configuration: Single; Coss Typ (pF): 107; Crss Typ (pF): 34; ID Max (A): 12; Qrr Typ (nC): 47; V(BR)DSS Min (V): 60; VGS(th) Max (V): 4; DatasheetVersion: Rev. 8; PackageVersion: Rev. C, 12/2010; PackageReference: IPAK-3-369D-01; PackageDescription: 3-Pin Flange Mount, Vertical Straight Lead, Body 6.54 x 2.285 mm, Pitch 2.29 mm; Supplier 1: Digi-Key; Supplier Part Number 1: NTD3055-094-1GOS-ND; Supplier 2: Farnell; Supplier Part Number 2: 1706018; Supplier 3: Newark; Supplier Part Number 3: 71J7041; Supplier 4: Mouser; Supplier Part Number 4: 863-NTD3055-094-1G; Package Type: DPAK-3, IPAK-4; Packing: Tube; RoHS: Pb-Free; Mounting Technology: Through Hole; Code_JEDEC: TO-251; ComponentLink1Description: Manufacturer URL; ComponentLink1URL: http://www.onsemi.com/; ComponentLink2Description: Datasheet; ComponentLink2URL: http://www.onsemi.com/pub_link/Collateral/NTD3055-094-D.PDF; ComponentLink3Description: Package Specification; ComponentLink3URL: http://www.onsemi.cn/pub_link/Collateral/369D.PDF
footprint ONSC-IPAK-3-369D-01 (FM, 3-Leads, Body 6.75x2.4mm, Pitch 2.29mm)
pins: 1 G, 2 D, 3 S

## NTD3055-094T4G
designator Q?
Power MOSFET, 12 A, 60 V, N-Channel, 3-Pin DPAK, Pb-Free, Tape and Reel; Manufacturer: On Semiconductor; PartNumber: NTD3055-094T4G; Channel Polarity: N Channel; Ciss Typ (pF): 323; Configuration: Single; Coss Typ (pF): 107; Crss Typ (pF): 34; ID Max (A): 12; Qrr Typ (nC): 47; V(BR)DSS Min (V): 60; VGS(th) Max (V): 4; DatasheetVersion: Rev. 8; PackageVersion: Rev. E, 02/2014; PackageReference: DPAK-3-369C-01; PackageDescription: 3-Pin Flange Mount, Body 6.54 x 6.095 mm, Pitch 2.29 mm; Supplier 1: Digi-Key; Supplier Part Number 1: NTD3055-094T4GOSTR-ND; Supplier 2: Digi-Key; Supplier Part Number 2: NTD3055-094T4GOSCT-ND; Supplier 3: Digi-Key; Supplier Part Number 3: NTD3055-094T4GOSDKR-ND; Supplier 4: Farnell; Supplier Part Number 4: 1653676RL; Supplier 5: Farnell; Supplier Part Number 5: 1653676; Supplier 6: Newark; Supplier Part Number 6: 71J7043; Supplier 7: Mouser; Supplier Part Number 7: 863-NTD3055-094T4G; Package Type: DPAK-3, IPAK-4; Packing: Tape and Reel; RoHS: Pb-Free; Mounting Technology: Surface Mount; ComponentLink1Description: Manufacturer URL; ComponentLink1URL: http://www.onsemi.com/; ComponentLink2Description: Datasheet; ComponentLink2URL: http://www.onsemi.com/pub_link/Collateral/NTD3055-094-D.PDF; ComponentLink3Description: Package Specification; ComponentLink3URL: http://www.onsemi.cn/pub_link/Collateral/369C.PDF
footprint ONSC-DPAK-3-369C-01_V (DPAK, 3-Leads, Body 6.54x6.095mm, Pitch 2.29mm)
pins: 1 G, 3 S, 4 D

## NTD3055-150-1G
designator Q?
Power MOSFET, 9 A, 60 V, N-Channel, 3-Pin IPAK, Pb-Free, Tube; Manufacturer: On Semiconductor; PartNumber: NTD3055-150-1G; Channel Polarity: N Channel; Ciss Typ (pF): 200; Configuration: Single; Coss Typ (pF): 70; Crss Typ (pF): 26; Qrr Typ (nC): 36; V(BR)DSS Min (V): 60; VGS(th) Max (V): 4; DatasheetVersion: Rev. 5; PackageVersion: Rev. C, 12/2010; PackageReference: IPAK-3-369D-01; PackageDescription: 3-Pin Flange Mount, Vertical Straight Lead, Body 6.54 x 2.285 mm, Pitch 2.29 mm; Package Type: DPAK-3; Packing: Tube; RoHS: Pb-Free; Mounting Technology: Through Hole; Code_JEDEC: TO-251; ComponentLink1Description: Manufacturer URL; ComponentLink1URL: http://www.onsemi.com/; ComponentLink2Description: Datasheet; ComponentLink2URL: http://www.onsemi.cn/pub_link/Collateral/NTD3055-150-D.PDF; ComponentLink3Description: Package Specification; ComponentLink3URL: http://www.onsemi.cn/pub_link/Collateral/369D.PDF
footprint ONSC-IPAK-3-369D-01 (FM, 3-Leads, Body 6.75x2.4mm, Pitch 2.29mm)
pins: 1 G, 2 D, 3 S

## NTD3055-150G
designator Q?
Power MOSFET, 9 A, 60 V, N-Channel, 3-Pin DPAK, Pb-Free, Tube; Manufacturer: On Semiconductor; PartNumber: NTD3055-150G; Channel Polarity: N Channel; Ciss Typ (pF): 200; Configuration: Single; Coss Typ (pF): 70; Crss Typ (pF): 26; Qrr Typ (nC): 36; V(BR)DSS Min (V): 60; VGS(th) Max (V): 4; DatasheetVersion: Rev. 5; PackageVersion: Rev. E, 02/2014; PackageReference: DPAK-3-369C-01; PackageDescription: 3-Pin Flange Mount, Body 6.54 x 6.095 mm, Pitch 2.29 mm; Package Type: DPAK-3; Packing: Tube; RoHS: Pb-Free; Mounting Technology: Surface Mount; ComponentLink1Description: Manufacturer URL; ComponentLink1URL: http://www.onsemi.com/; ComponentLink2Description: Datasheet; ComponentLink2URL: http://www.onsemi.cn/pub_link/Collateral/NTD3055-150-D.PDF; ComponentLink3Description: Package Specification; ComponentLink3URL: http://www.onsemi.cn/pub_link/Collateral/369C.PDF
footprint ONSC-DPAK-3-369C-01_V (DPAK, 3-Leads, Body 6.54x6.095mm, Pitch 2.29mm)
pins: 1 G, 3 S, 4 D

## NTD3055-150T4G
designator Q?
Power MOSFET, 9 A, 60 V, N-Channel, 3-Pin DPAK, Pb-Free, Tape and Reel; Manufacturer: On Semiconductor; PartNumber: NTD3055-150T4G; Channel Polarity: N Channel; Ciss Typ (pF): 200; Configuration: Single; Coss Typ (pF): 70; Crss Typ (pF): 26; Qrr Typ (nC): 36; V(BR)DSS Min (V): 60; VGS(th) Max (V): 4; DatasheetVersion: Rev. 5; PackageVersion: Rev. E, 02/2014; PackageReference: DPAK-3-369C-01; PackageDescription: 3-Pin Flange Mount, Body 6.54 x 6.095 mm, Pitch 2.29 mm; Package Type: DPAK-3; Packing: Tape and Reel; RoHS: Pb-Free; Mounting Technology: Surface Mount; ComponentLink1Description: Manufacturer URL; ComponentLink1URL: http://www.onsemi.com/; ComponentLink2Description: Datasheet; ComponentLink2URL: http://www.onsemi.cn/pub_link/Collateral/NTD3055-150-D.PDF; ComponentLink3Description: Package Specification; ComponentLink3URL: http://www.onsemi.cn/pub_link/Collateral/369C.PDF
footprint ONSC-DPAK-3-369C-01_V (DPAK, 3-Leads, Body 6.54x6.095mm, Pitch 2.29mm)
pins: 1 G, 3 S, 4 D

## NTD3055-150T4H
designator Q?
Power MOSFET, 9 A, 60 V, N-Channel, 3-Pin DPAK, Tape and Reel; Manufacturer: On Semiconductor; PartNumber: NTD3055-150T4H; Channel Polarity: N Channel; Ciss Typ (pF): 200; Configuration: Single; Coss Typ (pF): 70; Crss Typ (pF): 26; Qrr Typ (nC): 36; V(BR)DSS Min (V): 60; VGS(th) Max (V): 4; DatasheetVersion: Rev. 5; PackageVersion: Rev. E, 02/2014; PackageReference: DPAK-3-369C-01; PackageDescription: 3-Pin Flange Mount, Body 6.54 x 6.095 mm, Pitch 2.29 mm; Package Type: DPAK-3; Packing: Tape and Reel; Mounting Technology: Surface Mount; ComponentLink1Description: Manufacturer URL; ComponentLink1URL: http://www.onsemi.com/; ComponentLink2Description: Datasheet; ComponentLink2URL: http://www.onsemi.cn/pub_link/Collateral/NTD3055-150-D.PDF; ComponentLink3Description: Package Specification; ComponentLink3URL: http://www.onsemi.cn/pub_link/Collateral/369C.PDF
footprint ONSC-DPAK-3-369C-01_V (DPAK, 3-Leads, Body 6.54x6.095mm, Pitch 2.29mm)
pins: 1 G, 3 S, 4 D

## NTD3055L104-001
designator Q?
Power MOSFET, 12 A, 60 V, Logic Level, N-Channel, 3-Pin IPAK, Pb-Free, Tube; Manufacturer: On Semiconductor; PartNumber: NTD3055L104-001; Channel Polarity: N Channel; Ciss Typ (pF): 316; Configuration: Single; Coss Typ (pF): 105; Crss Typ (pF): 35; ID Max (A): 12; Qrr Typ (nC): 40; V(BR)DSS Min (V): 60; VGS(th) Max (V): 2; DatasheetVersion: Rev. 8; PackageVersion: Rev. C, 12/2010; PackageReference: IPAK-3-369D-01; PackageDescription: 3-Pin Flange Mount, Vertical Straight Lead, Body 6.54 x 2.285 mm, Pitch 2.29 mm; Package Type: DPAK-3, IPAK-4; Packing: Tube; RoHS: Pb-Free; Mounting Technology: Through Hole; Code_JEDEC: TO-251; ComponentLink1Description: Manufacturer URL; ComponentLink1URL: http://www.onsemi.com/; ComponentLink2Description: Datasheet; ComponentLink2URL: http://www.onsemi.cn/pub_link/Collateral/NTD3055L104-D.PDF; ComponentLink3Description: Package Specification; ComponentLink3URL: http://www.onsemi.cn/pub_link/Collateral/369D.PDF
footprint ONSC-IPAK-3-369D-01 (FM, 3-Leads, Body 6.75x2.4mm, Pitch 2.29mm)
pins: 1 G, 2 D, 3 S

## NTD3055L104-1G
designator Q?
Power MOSFET, 12 A, 60 V, Logic Level, N-Channel, 3-Pin IPAK, Pb-Free, Tube; Manufacturer: On Semiconductor; PartNumber: NTD3055L104-1G; Channel Polarity: N Channel; Ciss Typ (pF): 316; Configuration: Single; Coss Typ (pF): 105; Crss Typ (pF): 35; ID Max (A): 12; Qrr Typ (nC): 40; V(BR)DSS Min (V): 60; VGS(th) Max (V): 2; DatasheetVersion: Rev. 8; PackageVersion: Rev. C, 12/2010; PackageReference: IPAK-3-369D-01; PackageDescription: 3-Pin Flange Mount, Vertical Straight Lead, Body 6.54 x 2.285 mm, Pitch 2.29 mm; Package Type: DPAK-3, IPAK-4; Packing: Tube; RoHS: Pb-Free; Mounting Technology: Through Hole; Code_JEDEC: TO-251; ComponentLink1Description: Manufacturer URL; ComponentLink1URL: http://www.onsemi.com/; ComponentLink2Description: Datasheet; ComponentLink2URL: http://www.onsemi.cn/pub_link/Collateral/NTD3055L104-D.PDF; ComponentLink3Description: Package Specification; ComponentLink3URL: http://www.onsemi.cn/pub_link/Collateral/369D.PDF
footprint ONSC-IPAK-3-369D-01 (FM, 3-Leads, Body 6.75x2.4mm, Pitch 2.29mm)
pins: 1 G, 2 D, 3 S

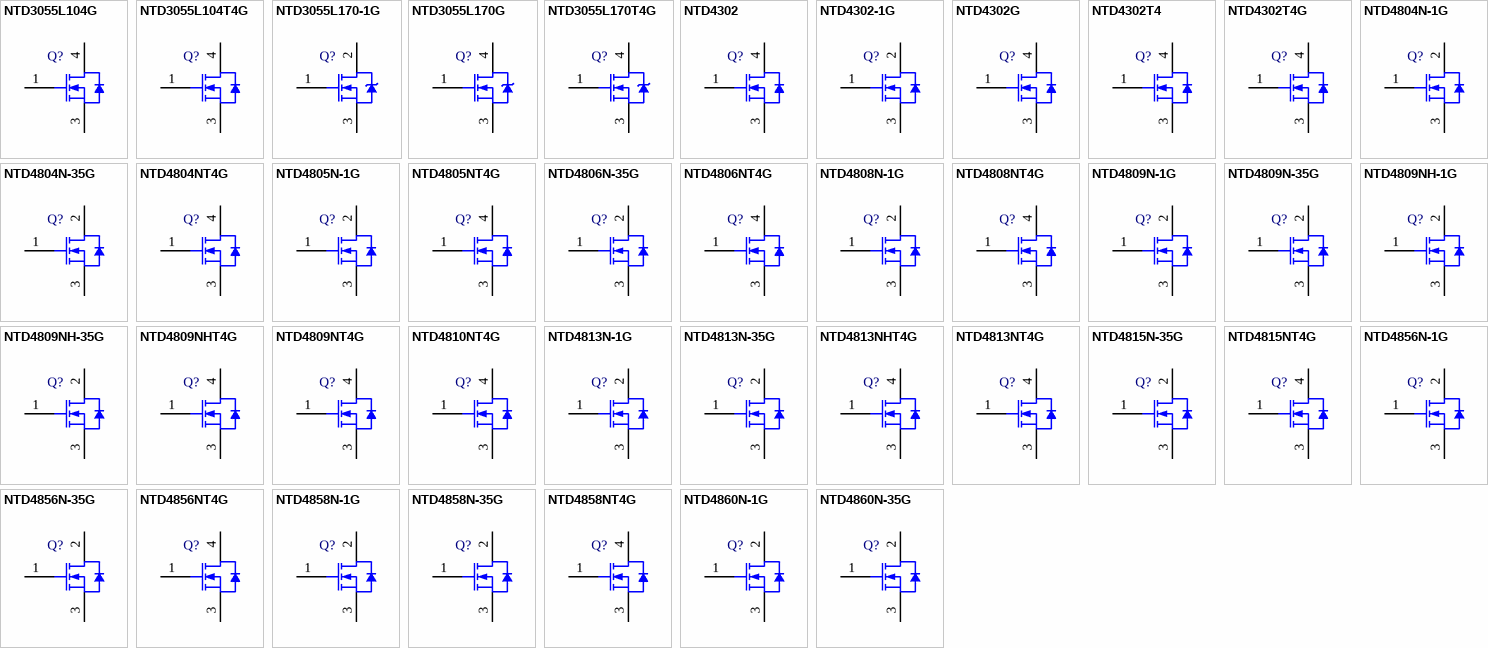
[diagram p66: symbols NTD3055L104G to NTD4860N-35G]

## NTD3055L104G
designator Q?
Power MOSFET, 12 A, 60 V, Logic Level, N-Channel, 3-Pin DPAK, Pb-Free, Tube; Manufacturer: On Semiconductor; PartNumber: NTD3055L104G; Channel Polarity: N Channel; Ciss Typ (pF): 316; Configuration: Single; Coss Typ (pF): 105; Crss Typ (pF): 35; ID Max (A): 12; Qrr Typ (nC): 40; V(BR)DSS Min (V): 60; VGS(th) Max (V): 2; DatasheetVersion: Rev. 8; PackageVersion: Rev. E, 02/2014; PackageReference: DPAK-3-369C-01; PackageDescription: 3-Pin Flange Mount, Body 6.54 x 6.095 mm, Pitch 2.29 mm; Package Type: DPAK-3, IPAK-4; Packing: Tube; RoHS: Pb-Free; Mounting Technology: Surface Mount; ComponentLink1Description: Manufacturer URL; ComponentLink1URL: http://www.onsemi.com/; ComponentLink2Description: Datasheet; ComponentLink2URL: http://www.onsemi.cn/pub_link/Collateral/NTD3055L104-D.PDF; ComponentLink3Description: Package Specification; ComponentLink3URL: http://www.onsemi.cn/pub_link/Collateral/369C.PDF
footprint ONSC-DPAK-3-369C-01_V (DPAK, 3-Leads, Body 6.54x6.095mm, Pitch 2.29mm)
pins: 1 G, 3 S, 4 D

## NTD3055L104T4G
designator Q?
Power MOSFET, 12 A, 60 V, Logic Level, N-Channel, 3-Pin DPAK, Pb-Free, Tape and Reel; Manufacturer: On Semiconductor; PartNumber: NTD3055L104T4G; Channel Polarity: N Channel; Ciss Typ (pF): 316; Configuration: Single; Coss Typ (pF): 105; Crss Typ (pF): 35; ID Max (A): 12; Qrr Typ (nC): 40; V(BR)DSS Min (V): 60; VGS(th) Max (V): 2; DatasheetVersion: Rev. 8; PackageVersion: Rev. E, 02/2014; PackageReference: DPAK-3-369C-01; PackageDescription: 3-Pin Flange Mount, Body 6.54 x 6.095 mm, Pitch 2.29 mm; Package Type: DPAK-3, IPAK-4; Packing: Tape and Reel; RoHS: Pb-Free; Mounting Technology: Surface Mount; ComponentLink1Description: Manufacturer URL; ComponentLink1URL: http://www.onsemi.com/; ComponentLink2Description: Datasheet; ComponentLink2URL: http://www.onsemi.cn/pub_link/Collateral/NTD3055L104-D.PDF; ComponentLink3Description: Package Specification; ComponentLink3URL: http://www.onsemi.cn/pub_link/Collateral/369C.PDF
footprint ONSC-DPAK-3-369C-01_V (DPAK, 3-Leads, Body 6.54x6.095mm, Pitch 2.29mm)
pins: 1 G, 3 S, 4 D

## NTD3055L170-1G
designator Q?
Power MOSFET, 9 A, 60 V, Logic Level, N-Channel, 3-Pin IPAK, Pb-Free, Tube; Manufacturer: On Semiconductor; PartNumber: NTD3055L170-1G; Channel Polarity: N Channel; Ciss Typ (pF): 195; Configuration: Single; Coss Typ (pF): 70; Crss Typ (pF): 29; Qrr Typ (nC): 31; V(BR)DSS Min (V): 60; VGS(th) Max (V): 2; DatasheetVersion: Rev. 5; PackageVersion: Rev. C, 12/2010; PackageReference: IPAK-3-369D-01; PackageDescription: 3-Pin Flange Mount, Vertical Straight Lead, Body 6.54 x 2.285 mm, Pitch 2.29 mm; Package Type: DPAK-3; Packing: Tube; RoHS: Pb-Free; Mounting Technology: Through Hole; Code_JEDEC: TO-251; ComponentLink1Description: Manufacturer URL; ComponentLink1URL: http://www.onsemi.com/; ComponentLink2Description: Datasheet; ComponentLink2URL: http://www.onsemi.cn/pub_link/Collateral/NTD3055L170-D.PDF; ComponentLink3Description: Package Specification; ComponentLink3URL: http://www.onsemi.cn/pub_link/Collateral/369D.PDF
footprint ONSC-IPAK-3-369D-01 (FM, 3-Leads, Body 6.75x2.4mm, Pitch 2.29mm)
pins: 1 G, 2 D, 3 S

## NTD3055L170G
designator Q?
Power MOSFET, 9 A, 60 V, Logic Level, N-Channel, 3-Pin DPAK, Pb-Free, Tube; Manufacturer: On Semiconductor; PartNumber: NTD3055L170G; Channel Polarity: N Channel; Ciss Typ (pF): 195; Configuration: Single; Coss Typ (pF): 70; Crss Typ (pF): 29; Qrr Typ (nC): 31; V(BR)DSS Min (V): 60; VGS(th) Max (V): 2; DatasheetVersion: Rev. 5; PackageVersion: Rev. E, 02/2014; PackageReference: DPAK-3-369C-01; PackageDescription: 3-Pin Flange Mount, Body 6.54 x 6.095 mm, Pitch 2.29 mm; Package Type: DPAK-3; Packing: Tube; RoHS: Pb-Free; Mounting Technology: Surface Mount; ComponentLink1Description: Manufacturer URL; ComponentLink1URL: http://www.onsemi.com/; ComponentLink2Description: Datasheet; ComponentLink2URL: http://www.onsemi.cn/pub_link/Collateral/NTD3055L170-D.PDF; ComponentLink3Description: Package Specification; ComponentLink3URL: http://www.onsemi.cn/pub_link/Collateral/369C.PDF
footprint ONSC-DPAK-3-369C-01_V (DPAK, 3-Leads, Body 6.54x6.095mm, Pitch 2.29mm)
pins: 1 G, 3 S, 4 D

## NTD3055L170T4G
designator Q?
Power MOSFET, 9 A, 60 V, Logic Level, N-Channel, 3-Pin DPAK, Pb-Free, Tape and Reel; Manufacturer: On Semiconductor; PartNumber: NTD3055L170T4G; Channel Polarity: N Channel; Ciss Typ (pF): 195; Configuration: Single; Coss Typ (pF): 70; Crss Typ (pF): 29; Qrr Typ (nC): 31; V(BR)DSS Min (V): 60; VGS(th) Max (V): 2; DatasheetVersion: Rev. 5; PackageVersion: Rev. E, 02/2014; PackageReference: DPAK-3-369C-01; PackageDescription: 3-Pin Flange Mount, Body 6.54 x 6.095 mm, Pitch 2.29 mm; Package Type: DPAK-3; Packing: Tape and Reel; RoHS: Pb-Free; Mounting Technology: Surface Mount; ComponentLink1Description: Manufacturer URL; ComponentLink1URL: http://www.onsemi.com/; ComponentLink2Description: Datasheet; ComponentLink2URL: http://www.onsemi.cn/pub_link/Collateral/NTD3055L170-D.PDF; ComponentLink3Description: Package Specification; ComponentLink3URL: http://www.onsemi.cn/pub_link/Collateral/369C.PDF
footprint ONSC-DPAK-3-369C-01_V (DPAK, 3-Leads, Body 6.54x6.095mm, Pitch 2.29mm)
pins: 1 G, 3 S, 4 D

## NTD4302
designator Q?
Power MOSFET, 68 A, 30 V, N-Channel, 3-Pin DPAK, Pb-Free, Tube; Manufacturer: On Semiconductor; PartNumber: NTD4302; Channel Polarity: N Channel; Ciss Typ (pF): 2050; Configuration: Single; Coss Typ (pF): 640; Crss Typ (pF): 225; ID Max (A): 68; Qrr Typ (nC): 43; V(BR)DSS Min (V): 30; VGS Max (V): 20; VGS(th) Max (V): 3; DatasheetVersion: Rev. 8; PackageVersion: Rev. E, 02/2014; PackageReference: DPAK-3-369C-01; PackageDescription: 3-Pin Flange Mount, Body 6.54 x 6.095 mm, Pitch 2.29 mm; Package Type: DPAK-3; Packing: Tube; RoHS: Pb-Free; Mounting Technology: Surface Mount; ComponentLink1Description: Manufacturer URL; ComponentLink1URL: http://www.onsemi.com/; ComponentLink2Description: Datasheet; ComponentLink2URL: http://www.onsemi.cn/pub_link/Collateral/NTD4302-D.PDF; ComponentLink3Description: Package Specification; ComponentLink3URL: http://www.onsemi.cn/pub_link/Collateral/369C.PDF
footprint ONSC-DPAK-3-369C-01_V (DPAK, 3-Leads, Body 6.54x6.095mm, Pitch 2.29mm)
pins: 1 G, 3 S, 4 D

## NTD4302-1G
designator Q?
Power MOSFET, 68 A, 30 V, N-Channel, 3-Pin IPAK, Pb-Free, Tube; Manufacturer: On Semiconductor; PartNumber: NTD4302-1G; Channel Polarity: N Channel; Ciss Typ (pF): 2050; Configuration: Single; Coss Typ (pF): 640; Crss Typ (pF): 225; ID Max (A): 68; Qrr Typ (nC): 43; V(BR)DSS Min (V): 30; VGS Max (V): 20; VGS(th) Max (V): 3; DatasheetVersion: Rev. 8; PackageVersion: Rev. C, 12/2010; PackageReference: IPAK-3-369D-01; PackageDescription: 3-Pin Flange Mount, Vertical Straight Lead, Body 6.54 x 2.285 mm, Pitch 2.29 mm; Package Type: DPAK-3; Packing: Tube; RoHS: Pb-Free; Mounting Technology: Through Hole; Code_JEDEC: TO-251; ComponentLink1Description: Manufacturer URL; ComponentLink1URL: http://www.onsemi.com/; ComponentLink2Description: Datasheet; ComponentLink2URL: http://www.onsemi.cn/pub_link/Collateral/NTD4302-D.PDF; ComponentLink3Description: Package Specification; ComponentLink3URL: http://www.onsemi.cn/pub_link/Collateral/369D.PDF
footprint ONSC-IPAK-3-369D-01 (FM, 3-Leads, Body 6.75x2.4mm, Pitch 2.29mm)
pins: 1 G, 2 D, 3 S

## NTD4302G
designator Q?
Power MOSFET, 68 A, 30 V, N-Channel, 3-Pin DPAK, Pb-Free, Tube; Manufacturer: On Semiconductor; PartNumber: NTD4302G; Channel Polarity: N Channel; Ciss Typ (pF): 2050; Configuration: Single; Coss Typ (pF): 640; Crss Typ (pF): 225; ID Max (A): 68; Qrr Typ (nC): 43; V(BR)DSS Min (V): 30; VGS Max (V): 20; VGS(th) Max (V): 3; DatasheetVersion: Rev. 8; PackageVersion: Rev. E, 02/2014; PackageReference: DPAK-3-369C-01; PackageDescription: 3-Pin Flange Mount, Body 6.54 x 6.095 mm, Pitch 2.29 mm; Package Type: DPAK-3; Packing: Tube; RoHS: Pb-Free; Mounting Technology: Surface Mount; ComponentLink1Description: Manufacturer URL; ComponentLink1URL: http://www.onsemi.com/; ComponentLink2Description: Datasheet; ComponentLink2URL: http://www.onsemi.cn/pub_link/Collateral/NTD4302-D.PDF; ComponentLink3Description: Package Specification; ComponentLink3URL: http://www.onsemi.cn/pub_link/Collateral/369C.PDF
footprint ONSC-DPAK-3-369C-01_V (DPAK, 3-Leads, Body 6.54x6.095mm, Pitch 2.29mm)
pins: 1 G, 3 S, 4 D

## NTD4302T4
designator Q?
Power MOSFET, 68 A, 30 V, N-Channel, 3-Pin DPAK, Pb-Free, Tape and Reel; Manufacturer: On Semiconductor; PartNumber: NTD4302T4; Channel Polarity: N Channel; Ciss Typ (pF): 2050; Configuration: Single; Coss Typ (pF): 640; Crss Typ (pF): 225; ID Max (A): 68; Qrr Typ (nC): 43; V(BR)DSS Min (V): 30; VGS Max (V): 20; VGS(th) Max (V): 3; DatasheetVersion: Rev. 8; PackageVersion: Rev. E, 02/2014; PackageReference: DPAK-3-369C-01; PackageDescription: 3-Pin Flange Mount, Body 6.54 x 6.095 mm, Pitch 2.29 mm; Package Type: DPAK-3; Packing: Tape and Reel; RoHS: Pb-Free; Mounting Technology: Surface Mount; ComponentLink1Description: Manufacturer URL; ComponentLink1URL: http://www.onsemi.com/; ComponentLink2Description: Datasheet; ComponentLink2URL: http://www.onsemi.cn/pub_link/Collateral/NTD4302-D.PDF; ComponentLink3Description: Package Specification; ComponentLink3URL: http://www.onsemi.cn/pub_link/Collateral/369C.PDF
footprint ONSC-DPAK-3-369C-01_V (DPAK, 3-Leads, Body 6.54x6.095mm, Pitch 2.29mm)
pins: 1 G, 3 S, 4 D

## NTD4302T4G
designator Q?
Power MOSFET, 68 A, 30 V, N-Channel, 3-Pin DPAK, Pb-Free, Tape and Reel; Manufacturer: On Semiconductor; PartNumber: NTD4302T4G; Channel Polarity: N Channel; Ciss Typ (pF): 2050; Configuration: Single; Coss Typ (pF): 640; Crss Typ (pF): 225; ID Max (A): 68; Qrr Typ (nC): 43; V(BR)DSS Min (V): 30; VGS Max (V): 20; VGS(th) Max (V): 3; DatasheetVersion: Rev. 8; PackageVersion: Rev. E, 02/2014; PackageReference: DPAK-3-369C-01; PackageDescription: 3-Pin Flange Mount, Body 6.54 x 6.095 mm, Pitch 2.29 mm; Package Type: DPAK-3; Packing: Tape and Reel; RoHS: Pb-Free; Mounting Technology: Surface Mount; ComponentLink1Description: Manufacturer URL; ComponentLink1URL: http://www.onsemi.com/; ComponentLink2Description: Datasheet; ComponentLink2URL: http://www.onsemi.cn/pub_link/Collateral/NTD4302-D.PDF; ComponentLink3Description: Package Specification; ComponentLink3URL: http://www.onsemi.cn/pub_link/Collateral/369C.PDF
footprint ONSC-DPAK-3-369C-01_V (DPAK, 3-Leads, Body 6.54x6.095mm, Pitch 2.29mm)
pins: 1 G, 3 S, 4 D

## NTD4804N-1G
designator Q?
Power MOSFET, 30 V, 117 A, Single N-Channel, 3-Pin IPAK, Pb-Free, Tube; Manufacturer: On Semiconductor; PartNumber: NTD4804N-1G; Channel Polarity: N Channel; Ciss Typ (pF): 4490; Coss Typ (pF): 952; Crss Typ (pF): 556; ID Max (A): 117; Qrr Typ (nC): 30; VGS Max (V): 20; VGS(th) Max (V): 2.5; DatasheetVersion: Rev. 8; PackageVersion: Rev. C, 12/2010; PackageReference: IPAK-3-369D-01; PackageDescription: 3-Pin Flange Mount, Vertical Straight Lead, Body 6.54 x 2.285 mm, Pitch 2.29 mm; Configuration: Single; Package Type: DPAK-3; Packing: Tube; RoHS: Pb-Free; V(BR)DSS Min (V): 30; Mounting Technology: Through Hole; Code_JEDEC: TO-251; ComponentLink1Description: Manufacturer URL; ComponentLink1URL: http://www.onsemi.com/; ComponentLink2Description: Datasheet; ComponentLink2URL: http://www.onsemi.cn/pub_link/Collateral/NTD4804N-D.PDF; ComponentLink3Description: Package Specification; ComponentLink3URL: http://www.onsemi.cn/pub_link/Collateral/369D.PDF
footprint ONSC-IPAK-3-369D-01 (FM, 3-Leads, Body 6.75x2.4mm, Pitch 2.29mm)
pins: 1 G, 2 D, 3 S